# Altium footprint library XAL6060.PcbLib: 1 footprints
Each footprint in its own frame and in the unit in brackets; x right, y up, seen from the top. Pads: shape width x height; smd on the part's side, far side on the other; paste and mask are expansions set on the pad; w line width, h text height; cw(c..) or ccw(c..) is an arc to the next point about the centre after c.
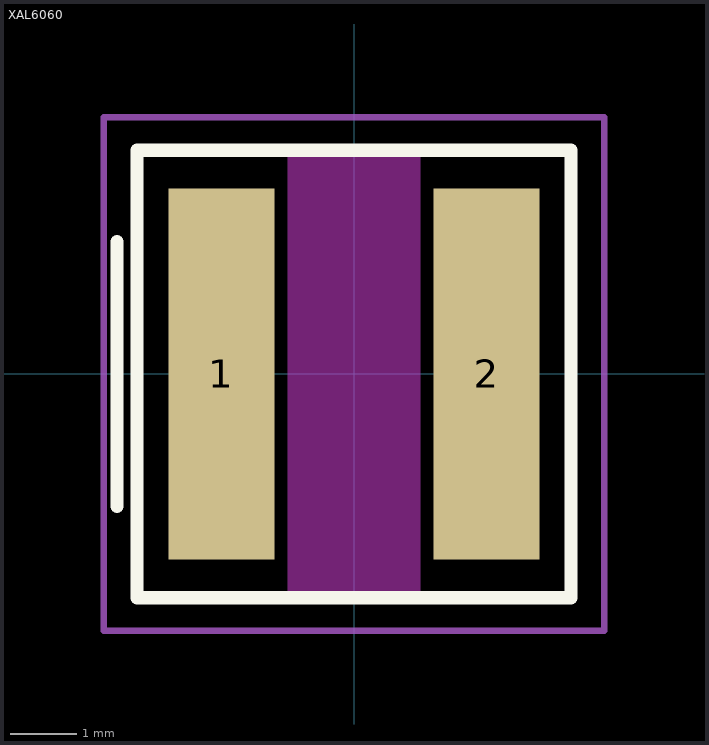
[diagram p0: the footprint, top view; thin cyan lines are the x and y axes]

## XAL6060 [mm]
pads (2):
  rect 1.6x5.6 smd: 1(-2,0) 2(2,0)
Top Layer keep-out:
  rectangle: -1,-3.375 1,3.375
Top Overlay:
  lines w0.2: -3.575,-2 -3.575,2 ; -3.275,-3.375 -3.275,3.375 3.275,3.375 3.275,-3.375 -3.275,-3.375
Top Courtyard:
  lines w0.1: -3.775,-3.875 -3.275,-3.875 3.775,-3.875 3.775,3.875 -3.775,3.875 -3.775,-3.875
3D body "Coilcraft-XAL6060.step": height 6.15, standoff 0.05, extent -3.28,-3.38 3.28,3.38